# Altium footprint library sm_connector.PcbLib: 22 footprints (part 2 of 2)
Each footprint in its own frame and in the unit in brackets; x right, y up, seen from the top. Pads: shape width x height; smd on the part's side, far side on the other; paste and mask are expansions set on the pad; w line width, h text height; cw(c..) or ccw(c..) is an arc to the next point about the centre after c.
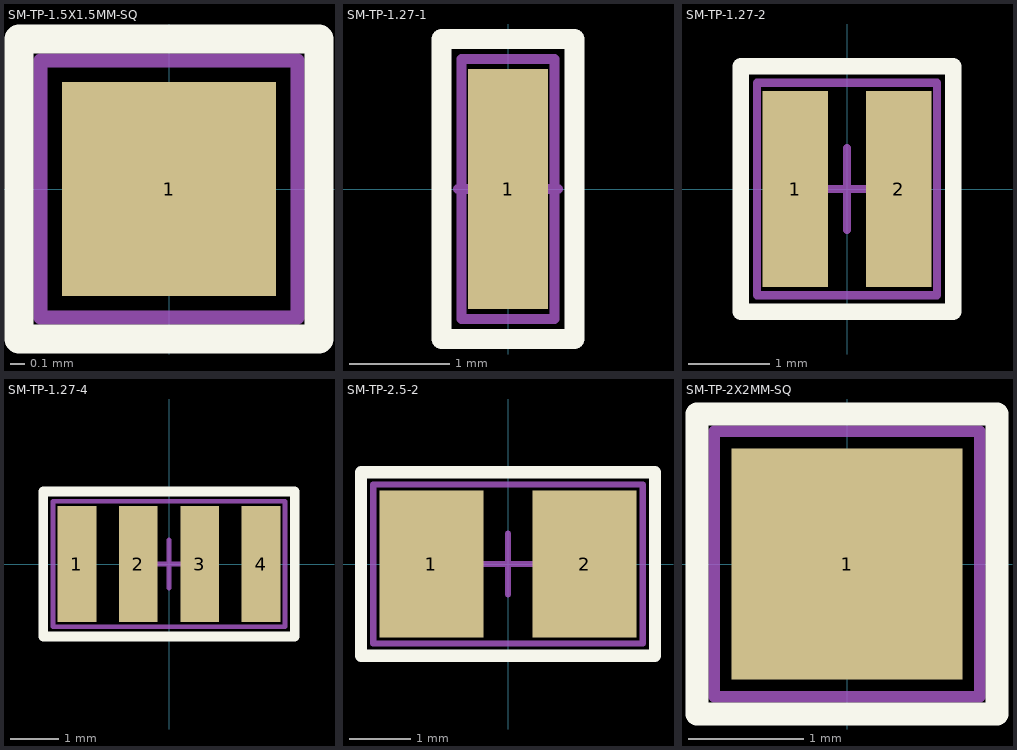
[diagram p1: the footprints below, top view; thin cyan lines are the x and y axes]

## SM-TP-1.5X1.5MM-SQ [mm] "SM Test Point - 1.5x1.5mm Square"
pads (1):
  rect 1.5x1.5 smd: 1(0,0)
Top Overlay:
  lines w0.2: -1.05,-1.05 -1.05,1.05 1.05,1.05 1.05,-1.05 -1.05,-1.05
Mechanical 13:
  lines w0.1: -0.5,0 0.5,0 ; 0,-0.5 0,0.5
Mechanical 15:
  lines w0.1: -0.9,-0.9 -0.9,0.9 0.9,0.9 0.9,-0.9 -0.9,-0.9
  text ".Designator" at -1.665,-2.725 h0.5

## SM-TP-1.27-1 [mm] "SM Test Point - 1.27mm"
pads (1):
  rect 0.8x2.4 smd: 1(0,0)
Top Overlay:
  lines w0.2: -0.665,-1.5 -0.665,1.5 0.665,1.5 0.665,-1.5 -0.665,-1.5
Mechanical 13:
  lines w0.1: -0.5,0 0.5,0 ; 0,-0.5 0,0.5
Mechanical 15:
  lines w0.1: -0.465,-1.3 0.465,-1.3 0.465,1.3 -0.465,1.3 -0.465,-1.3
  text ".Designator" at -1.665,-2.725 h0.5

## SM-TP-1.27-2 [mm] "SM Dual Test Point - 1.27mm"
pads (2):
  rect 0.8x2.4 smd: 1(-0.635,0) 2(0.635,0)
Top Overlay:
  lines w0.2: -1.3,-1.5 1.3,-1.5 1.3,1.5 -1.3,1.5 -1.3,-1.5
Mechanical 13:
  lines w0.1: -0.5,0 0.5,0 ; 0,-0.5 0,0.5
Mechanical 15:
  lines w0.1: -1.1,-1.3 -1.1,1.3 1.1,1.3 1.1,-1.3 -1.1,-1.3
  text ".Designator" at -2.3,-2.725 h0.5

## SM-TP-1.27-4 [mm] "SM Quad Test Point - 1.27mm"
pads (4):
  rect 0.8x2.4 smd: 1(-1.905,0) 2(-0.635,0) 3(0.635,0) 4(1.905,0)
Top Overlay:
  lines w0.2: -2.6,-1.5 2.6,-1.5 2.6,1.5 -2.6,1.5 -2.6,-1.5
Mechanical 13:
  lines w0.1: -0.5,0 0.5,0 ; 0,-0.5 0,0.5
Mechanical 15:
  lines w0.1: -2.4,-1.3 -2.4,1.3 2.4,1.3 2.4,-1.3 -2.4,-1.3
  text ".Designator" at -2.3,-2.725 h0.5

## SM-TP-2.5-2 [mm] "SM Dual Test Point - 2.5mm"
pads (2):
  rect 1.7x2.4 smd: 1(-1.25,0) 2(1.25,0)
Top Overlay:
  lines w0.2: -2.4,-1.5 -2.4,1.5 2.4,1.5 2.4,-1.5 -2.4,-1.5
Mechanical 13:
  lines w0.1: -0.5,0 0.5,0 ; 0,-0.5 0,0.5
Mechanical 15:
  lines w0.1: -2.2,-1.3 2.2,-1.3 2.2,1.3 -2.2,1.3 -2.2,-1.3
  text ".Designator" at -2.3,-2.725 h0.5

## SM-TP-2X2MM-SQ [mm] "SM Test Point - 2.0x2.0mm Square"
pads (1):
  rect 2x2 smd: 1(0,0)
Top Overlay:
  lines w0.2: -1.3,-1.3 -1.3,1.3 1.3,1.3 1.3,-1.3 -1.3,-1.3
Mechanical 13:
  lines w0.1: -0.5,0 0.5,0 ; 0,-0.5 0,0.5
Mechanical 15:
  lines w0.1: -1.15,-1.15 -1.15,1.15 1.15,1.15 1.15,-1.15 -1.15,-1.15
  text ".Designator" at -1.665,-2.725 h0.5